# Altium footprint library res_cap_footprint.PcbLib: 13 footprints
Each footprint in its own frame and in the unit in brackets; x right, y up, seen from the top. Pads: shape width x height; smd on the part's side, far side on the other; paste and mask are expansions set on the pad; w line width, h text height; cw(c..) or ccw(c..) is an arc to the next point about the centre after c.
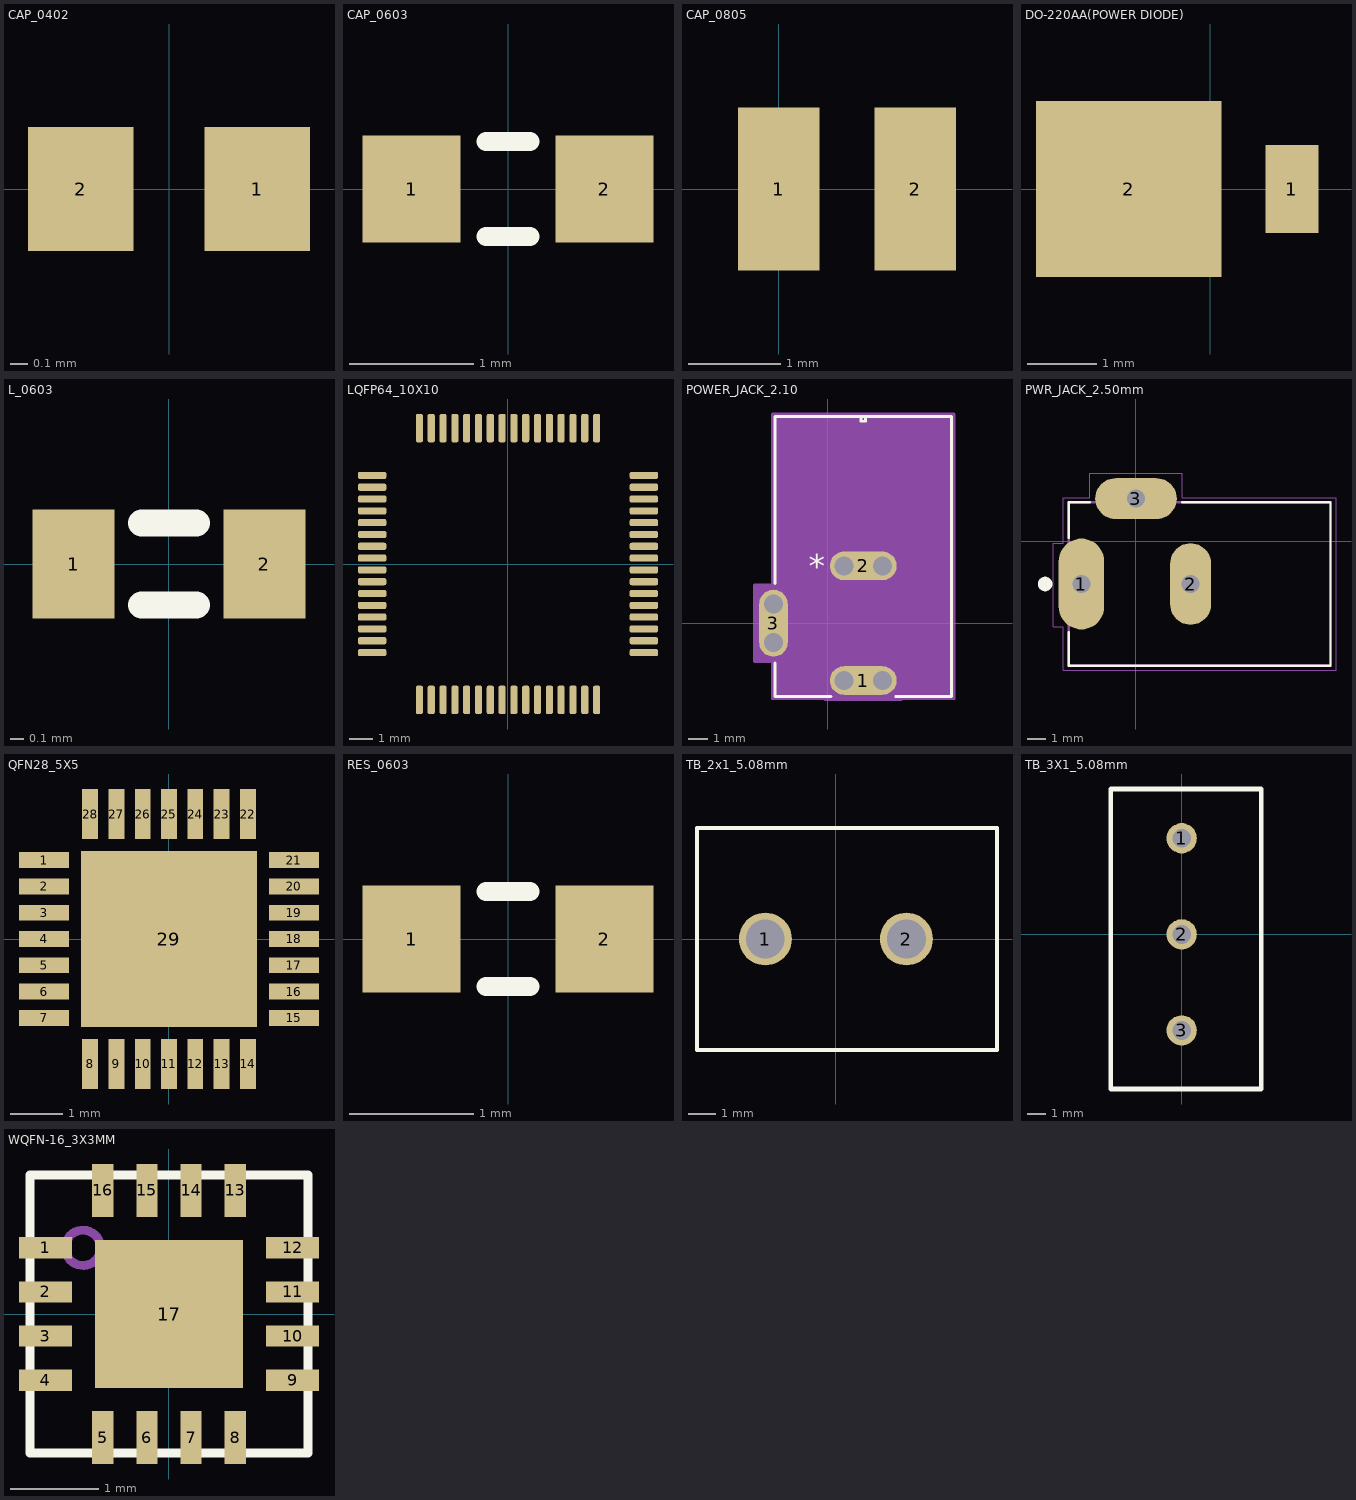
[diagram p0: the footprints below, top view; thin cyan lines are the x and y axes]

## CAP_0402 [mm]
pads (2):
  rect 0.6x0.7 smd: 1(0.5,0) 2(-0.5,0)
3D body "CAP_0402.step": height -0.36, standoff -0.91, extent -0.525,-0.275 0.525,0.275

## CAP_0603 [mil]
pads (2):
  rect 31x34 smd: 1(-30.5,0) 2(30.5,0)
Top Overlay:
  lines w6: -7,-15 7,-15 ; -7,15 7,15
3D body "CAP_0603.STEP": height -16, standoff -53.4, extent -32.28,-16.44 32.28,16.44

## CAP_0805 [mil]
pads (2):
  rect 35x70 smd: 1(0,0) 2(58.66,0)
3D body "cap_0805.STEP": height 48.73, standoff -0.48, extent -9.84,-24.61 68.9,24.61

## DO-220AA(POWER DIODE) [mm]
pads (2):
  rect 0.762x1.27 smd: 1(1.176,0)
  rect 2.67x2.54 smd: 2(-1.175,0)
3D body "DO-220AA(POWER DIODE).STEP": height 1.15, standoff 0, extent -2.449,-1.141 1.48,1.167

## L_0603 [mm]
pads (2):
  rect 0.6x0.8 smd: 1(-0.7,0) 2(0.7,0)
Top Overlay:
  lines w0.2: -0.2,-0.3 0.2,-0.3 ; -0.2,0.3 0.2,0.3
3D body "L_0603v2.stp": height 0.45, standoff 0, extent -0.8,-0.4 0.8,0.4

## LQFP64_10X10 [mm]
pads (64):
  rrect50% 1.2x0.3 smd: 1(-5.75,3.75) 2(-5.75,3.25) 3(-5.75,2.75) 4(-5.75,2.25) 5(-5.75,1.75) 6(-5.75,1.25) 7(-5.75,0.75) 8(-5.75,0.25) 9(-5.75,-0.25) 10(-5.75,-0.75) 11(-5.75,-1.25) 12(-5.75,-1.75) 13(-5.75,-2.25) 14(-5.75,-2.75) 15(-5.75,-3.25) 16(-5.75,-3.75) 33(5.75,-3.75) 34(5.75,-3.25) 35(5.75,-2.75) 36(5.75,-2.25) 37(5.75,-1.75) 38(5.75,-1.25) 39(5.75,-0.75) 40(5.75,-0.25) 41(5.75,0.25) 42(5.75,0.75) 43(5.75,1.25) 44(5.75,1.75) 45(5.75,2.25) 46(5.75,2.75) 47(5.75,3.25) 48(5.75,3.75)
  rrect50% 0.3x1.2 smd: 17(-3.75,-5.75) 18(-3.25,-5.75) 19(-2.75,-5.75) 20(-2.25,-5.75) 21(-1.75,-5.75) 22(-1.25,-5.75) 23(-0.75,-5.75) 24(-0.25,-5.75) 25(0.25,-5.75) 26(0.75,-5.75) 27(1.25,-5.75) 28(1.75,-5.75) 29(2.25,-5.75) 30(2.75,-5.75) 31(3.25,-5.75) 32(3.75,-5.75) 49(3.75,5.75) 50(3.25,5.75) 51(2.75,5.75) 52(2.25,5.75) 53(1.75,5.75) 54(1.25,5.75) 55(0.75,5.75) 56(0.25,5.75) 57(-0.25,5.75) 58(-0.75,5.75) 59(-1.25,5.75) 60(-1.75,5.75) 61(-2.25,5.75) 62(-2.75,5.75) 63(-3.25,5.75) 64(-3.75,5.75)
3D body "STM32Fxxx-LQFP64(10x10).step": height 1.6, standoff 0.01, extent -5.999,-5.999 5.999,5.999

## POWER_JACK_2.10 [mil] "CONN PWR JACK 2X5.5MM SOLDER"
pads (9):
  oval 138x59 smd paste+0 mask+0: 1(72.77,-118.11) 2(72.77,118.11)
  oval 59x138 smd paste+0 mask+0: 3(-112.27,0)
  round 39 / inner round 60 / far side round 39 hole 39 unplated paste-99999 mask-19.5: S_1_H1(112.27,-118.11) S_1_H2(33.27,-118.11) S_2_H1(112.27,118.11) S_2_H2(33.27,118.11) S_3_H1(-112.27,39.5) S_3_H2(-112.27,-39.5)
Top Overlay:
  lines w6: -109.23,-81.99 -109.23,-150.74 5.88,-150.74 ; -109.23,81.99 -109.23,426.26 254.77,426.26 254.77,-150.74 139.66,-150.74 ; 67.77,416.26 67.77,426.26 77.77,426.26 77.77,416.26 67.77,416.26
  text "*" at -39.73,93.11 h50
Mechanical 13:
  lines w1: -104.23,-49 -120.23,-49 -120.23,49 -104.23,49 ; -104.23,-145.74 -104.23,421.26 249.77,421.26 249.77,-145.74 -104.23,-145.74
  text "*" at -39.73,93.11 h50
Mechanical 15:
  region: -114.23,-155.74 -6.23,-155.74 -6.23,-157.61 151.77,-157.61 151.77,-155.74 259.77,-155.74 259.77,431.26 -114.23,431.26 -114.23,79 -151.77,79 -151.77,-79 -114.23,-79
  lines w6: -151.77,-79 -114.23,-79 -114.23,-155.74 -6.23,-155.74 -6.23,-157.61 151.77,-157.61 151.77,-155.74 259.77,-155.74 259.77,431.26 -114.23,431.26 -114.23,79 -151.77,79 -151.77,-79
Multi-Layer:
  lines w39: -112.27,-39.5 -112.27,39.5 ; 33.27,-118.11 112.27,-118.11 ; 33.27,118.11 112.27,118.11
3D body "Same_Sky_PJ-006A-SMT-TR.step": height 0, standoff -559.06, extent -229.87,-123.66 375.98,409.45

## PWR_JACK_2.50mm [mm]
pads (3):
  oval 2.5x5 hole 1 square: 1(-3,-2.35)
  oval 2.25x4.5 hole 1 square: 2(3,-2.35)
  oval 4.5x2.25 hole 1 square: 3(0,2.35)
Top Overlay:
  circle w0.4: c-5,-2.35 r0.2
  lines w0.127: -3.7,-5 -3.7,-6.85 10.7,-6.85 10.7,2.15 2.55,2.15 ; -3.7,0.2 -3.7,2.15 -2.55,2.15
Mechanical 13:
  lines w0.127: -3.7,-6.85 10.7,-6.85 10.7,2.15 -3.7,2.15 -3.7,-6.85
Mechanical 15:
  lines w0.05: -4.55,-4.7 -4.55,-0.1 -4,-0.1 -4,2.4 -2.55,2.4 -2.55,3.75 2.55,3.75 2.55,2.4 11,2.4 11,-7.1 -4,-7.1 -4,-4.7 -4.55,-4.7
3D body "step_temp.STEP": height 11, standoff -3.49, extent -3.7,-7 10.7,2.4

## QFN28_5X5 [mm]
pads (29):
  rect 0.95x0.3 smd: 1(-2.375,1.5) 2(-2.375,1) 3(-2.375,0.5) 4(-2.375,0) 5(-2.375,-0.5) 6(-2.375,-1) 7(-2.375,-1.5) 15(2.375,-1.5) 16(2.375,-1) 17(2.375,-0.5) 18(2.375,0) 19(2.375,0.5) 20(2.375,1) 21(2.375,1.5)
  rect 0.3x0.95 smd: 8(-1.5,-2.375) 9(-1,-2.375) 10(-0.5,-2.375) 11(0,-2.375) 12(0.5,-2.375) 13(1,-2.375) 14(1.5,-2.375) 22(1.5,2.375) 23(1,2.375) 24(0.5,2.375) 25(0,2.375) 26(-0.5,2.375) 27(-1,2.375) 28(-1.5,2.375)
  rect 3.35x3.35 smd: 29(0,0)
3D body "QFN28(5x5).step": height 1, standoff 0, extent -2.505,-2.505 2.505,2.505

## RES_0603 [mil]
pads (2):
  rect 31x34 smd: 1(-30.5,0) 2(30.5,0)
Top Overlay:
  lines w6: -7,-15 7,-15 ; -7,15 7,15
3D body "RES_0603.STEP": height -15.5, standoff -37.55, extent -33.46,-15.75 33.46,15.75

## TB_2x1_5.08mm [mil]
pads (2):
  round 75 / inner round 60 / far side round 75 hole 55 paste-99999 mask+0: 1(-100,0) 2(100,0)
Top Overlay:
  lines w6: -196.85,-157.48 228.35,-157.48 228.35,157.48 -196.85,157.48 -196.85,-157.48
3D body "TB_2X1_5.08mm.STEP": height 396.46, standoff -131.1, extent -200,-160.24 231.5,160.24

## TB_3X1_5.08mm [mm]
pads (3):
  round 1.6 hole 1: 1(0,5.08) 2(0,0) 3(0,-5.08)
Top Overlay:
  lines w0.254: -3.75,-8.18 -3.75,7.684 -3.331,7.684 3.704,7.684 4.2,7.684 4.2,-8.18 -3.75,-8.18
3D body "TB_3X1_5.08mm.STEP": height 10.05, standoff -3.45, extent -4.1,-8.22 4.1,7.62

## WQFN-16_3X3MM [mm]
pads (17):
  rect 0.6x0.24 smd paste+0 mask+0.051: 1(-1.4,0.75) 2(-1.4,0.25) 3(-1.4,-0.25) 4(-1.4,-0.75) 9(1.4,-0.75) 10(1.4,-0.25) 11(1.4,0.25) 12(1.4,0.75)
  rect 0.24x0.6 smd paste+0 mask+0.051: 5(-0.75,-1.4) 6(-0.25,-1.4) 7(0.25,-1.4) 8(0.75,-1.4) 13(0.75,1.4) 14(0.25,1.4) 15(-0.25,1.4) 16(-0.75,1.4)
  rect 1.68x1.68 smd paste-0.827 mask+0.051: 17(0,0)
Top Overlay:
  lines w0.1: -1.575,-1.575 1.575,-1.575 1.575,1.575 -1.575,1.575 -1.575,-1.575
Top Paste:
  region: -0.774,-0.738 -0.775,-0.728 -0.775,0.729 -0.774,0.738 -0.771,0.746 -0.767,0.754 -0.761,0.761 -0.754,0.767 -0.746,0.771 -0.738,0.774 -0.728,0.775 0.729,0.775 0.738,0.774 0.746,0.771 0.754,0.767 0.761,0.761 0.767,0.754 0.771,0.746 0.774,0.738 0.775,0.729 0.775,-0.728 0.774,-0.738 0.771,-0.746 0.767,-0.754 0.761,-0.761 0.754,-0.767 0.746,-0.771 0.738,-0.774 0.729,-0.775 -0.728,-0.775 -0.738,-0.774 -0.746,-0.771 -0.754,-0.767 -0.761,-0.761 -0.767,-0.754 -0.771,-0.746
Mechanical 13:
  circle w0.1: c-0.975,0.75 r0.2
3D body "WQFN-16 3X3mm.STEP": height 0.8, standoff 0, extent -1.5,-1.5 1.5,1.5